# Altium schematic symbol library TL3342F160QG.SchLib: 1 symbol
Pins are listed as number, name and electrical type; pins without a type are passive.

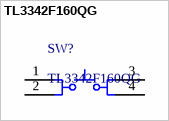
[diagram p0: symbol TL3342F160QG]

## TL3342F160QG
designator SW?
Switch, Tactile, SPST-NO, 50 mA, 12 V, 4-Pin SMD, RoHS, Tape and Reel; Tolerance: 20%; Voltage Rating (DC): 50 V; Case\Package: Radial; Capacitance: 4.7 uF; RoHSCompliant: true; Min Operating Temperature: -40 degC; Width: 0 inch; Max Operating Temperature: 85 degC; ComponentLink1Description: Manufacturer URL; ComponentLink2Description: Datasheet; DatasheetVersion: Rev. I, 12/2010; ComponentLink1URL: http://www.e-switch.ch/en/; ComponentLink2URL: http://spec_sheets.e-switch.com/specs/P010632.pdf; PackageReference: TL3342F160QG; Pins: 2; Voltage Rating: 50 V; Mount: Through Hole; Length: 11 mm; REACH SVHC: No SVHC; Radiation Hardening: No; Lead Pitch: 2 mm; Diameter: 5 mm; Package Quantity: 200; Height: 11 mm; Packaging: Bulk; PackageDescription: 4-Pin Surface Mount Device, Body 5 x 5 mm, Pitch 6.3 mm; PartNumber: TL3342F160QG
footprint ESWI-TL3342F160QG_V
pins: 1, 2, 3, 4